# Altium schematic symbol library Resistors.SchLib: 38 symbols
Pins are listed as number, name and electrical type; pins without a type are passive.

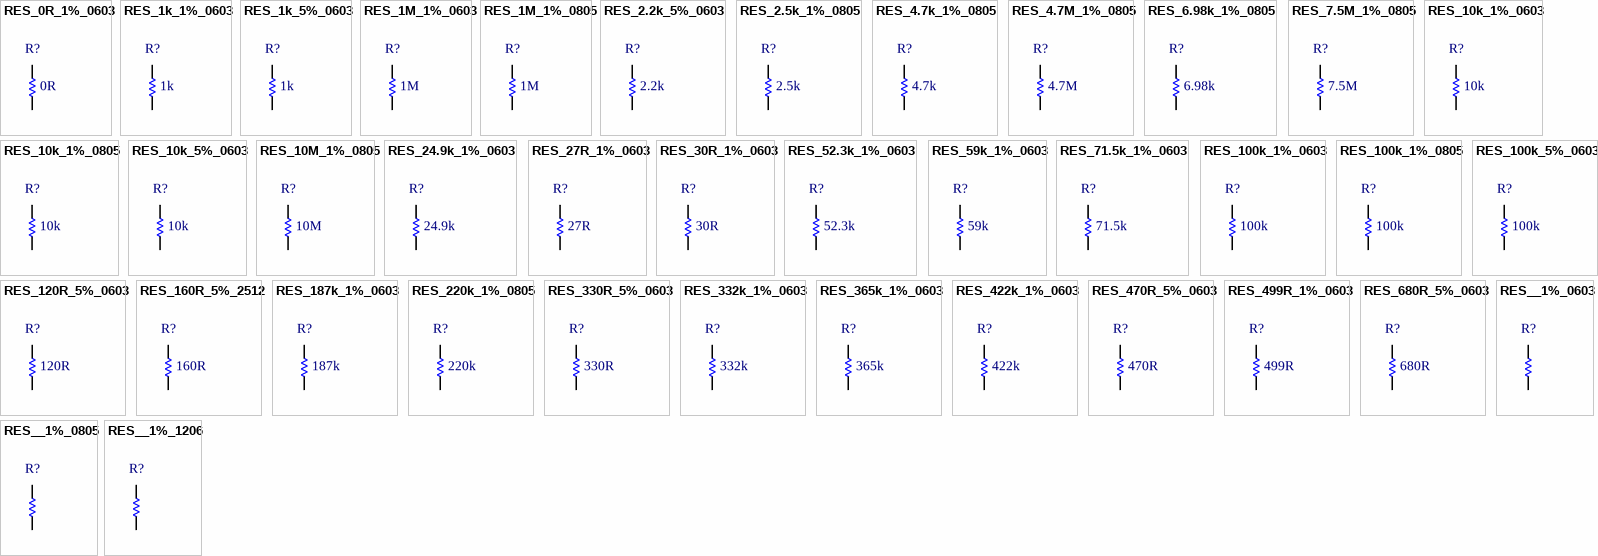
[diagram p0: symbols RES_0R_1%_0603 to RES__1%_1206]

## RES_0R_1%_0603
designator R?  SchematicInformation: 0R
Manufacturer Part Number: RC0603FR-070RL; Manufacturer: Yageo; DigiKey Part Number: 311-0.0HRCT-ND
footprint R_0603 (0603 SMT resistor)
pins: 1, 2

## RES_1k_1%_0603
designator R?  SchematicInformation: 1k
Manufacturer Part Number: RC0603FR-071KL; Manufacturer: Yageo; DigiKey Part Number: 311-1.00KHRCT-ND
footprint R_0603 (0603 SMT resistor)
pins: 1, 2

## RES_1k_5%_0603
designator R?  SchematicInformation: 1k
Manufacturer Part Number: RC0603JR-071KL; Manufacturer: Yageo; DigiKey Part Number: 311-1.0KGRCT-ND
footprint R_0603 (0603 SMT resistor)
pins: 1, 2

## RES_1M_1%_0603
designator R?  SchematicInformation: 1M
Manufacturer Part Number: RC0603FR-071ML; Manufacturer: Yageo; DigiKey Part Number: 311-1.00MHRCT-ND
footprint R_0603 (0603 SMT resistor)
pins: 1, 2

## RES_1M_1%_0805
designator R?  SchematicInformation: 1M
Manufacturer Part Number: RC0805FR-071ML; Manufacturer: Yageo; DigiKey Part Number: 311-1.00MCRCT-ND
footprint R_0805 (0805 SMT resistor)
pins: 1, 2

## RES_2.2k_5%_0603
designator R?  SchematicInformation: 2.2k
Manufacturer Part Number: RC0603FR-072K2L; Manufacturer: Yageo; DigiKey Part Number: 311-2.20KHRCT-ND
footprint R_0603 (0603 SMT resistor)
pins: 1, 2

## RES_2.5k_1%_0805
designator R?  SchematicInformation: 2.5k
Manufacturer Part Number: RC0805FR-072K32L; Manufacturer: Yageo; DigiKey Part Number: 311-2.32KCRCT-ND
footprint R_0805 (0805 SMT resistor)
pins: 1, 2

## RES_4.7k_1%_0805
designator R?  SchematicInformation: 4.7k
Manufacturer Part Number: RC0805FR-074K7L; Manufacturer: Yageo; DigiKey Part Number: 311-2.32KCRCT-ND
footprint R_0805 (0805 SMT resistor)
pins: 1, 2

## RES_4.7M_1%_0805
designator R?  SchematicInformation: 4.7M
Manufacturer Part Number: RC0805FR-074M7L; Manufacturer: Yageo; DigiKey Part Number: 311-4.70MCRCT-ND
footprint R_0805 (0805 SMT resistor)
pins: 1, 2

## RES_6.98k_1%_0805
designator R?  SchematicInformation: 6.98k
Manufacturer Part Number: RC0805FR-076K98L; Manufacturer: Yageo; DigiKey Part Number: 311-6.98KCRCT-ND
footprint R_0805 (0805 SMT resistor)
pins: 1, 2

## RES_7.5M_1%_0805
designator R?  SchematicInformation: 7.5M
Manufacturer Part Number: RC0805FR-077M5L; Manufacturer: Yageo; DigiKey Part Number: 311-7.50MCRCT-ND
footprint R_0805 (0805 SMT resistor)
pins: 1, 2

## RES_10k_1%_0603
designator R?  SchematicInformation: 10k
Manufacturer Part Number: RC0603FR-0710KL; Manufacturer: Yageo; DigiKey Part Number: 311-10.0KHRCT-ND
footprint R_0603 (0603 SMT resistor)
pins: 1, 2

## RES_10k_1%_0805
designator R?  SchematicInformation: 10k
Manufacturer Part Number: RC0805FR-0710KP; Manufacturer: Yageo; DigiKey Part Number: YAG1319CT-ND
footprint R_0805 (0805 SMT resistor)
pins: 1, 2

## RES_10k_5%_0603
designator R?  SchematicInformation: 10k
Manufacturer Part Number: AC0603JR-0710KL; Manufacturer: Yageo; DigiKey Part Number: 311-10KLECT-ND
footprint R_0603 (0603 SMT resistor)
pins: 1, 2

## RES_10M_1%_0805
designator R?  SchematicInformation: 10M
Manufacturer Part Number: RC0805FR-0710ML; Manufacturer: Yageo; DigiKey Part Number: 311-10.0MCRCT-ND
footprint R_0805 (0805 SMT resistor)
pins: 1, 2

## RES_24.9k_1%_0603
designator R?  SchematicInformation: 24.9k
Manufacturer Part Number: RT0603FRE0724K9L; Manufacturer: Yageo; DigiKey Part Number: YAG5951CT-ND
footprint R_0603 (0603 SMT resistor)
pins: 1, 2

## RES_27R_1%_0603
designator R?  SchematicInformation: 27R
Manufacturer Part Number: RT0603FRE0727RL; Manufacturer: Yageo; DigiKey Part Number: YAG5953CT-ND
footprint R_0603 (0603 SMT resistor)
pins: 1, 2

## RES_30R_1%_0603
designator R?  SchematicInformation: 30R
Manufacturer Part Number: RT0603FRE0730RL; Manufacturer: Yageo; DigiKey Part Number: 13-RT0603FRE0730RLCT-ND
footprint R_0603 (0603 SMT resistor)
pins: 1, 2

## RES_52.3k_1%_0603
designator R?  SchematicInformation: 52.3k
Manufacturer Part Number: RC0603FR-0752K3L; Manufacturer: Yageo; DigiKey Part Number: 311-52.3KHRCT-ND
footprint R_0603 (0603 SMT resistor)
pins: 1, 2

## RES_59k_1%_0603
designator R?  SchematicInformation: 59k
Manufacturer Part Number: RC0603FR-0759KL; Manufacturer: Yageo; DigiKey Part Number: 311-59.0KHRCT-ND
footprint R_0603 (0603 SMT resistor)
pins: 1, 2

## RES_71.5k_1%_0603
designator R?  SchematicInformation: 71.5k
Manufacturer Part Number: RC0603FR-0771K5L; Manufacturer: Yageo; DigiKey Part Number: 311-71.5KHRCT-ND
footprint R_0603 (0603 SMT resistor)
pins: 1, 2

## RES_100k_1%_0603
designator R?  SchematicInformation: 100k
Manufacturer Part Number: RC0603FR-07100KL; Manufacturer: Yageo; DigiKey Part Number: 311-100KHRCT-ND
footprint R_0603 (0603 SMT resistor)
pins: 1, 2

## RES_100k_1%_0805
designator R?  SchematicInformation: 100k
Manufacturer Part Number: RT0805FRE07100KL; Manufacturer: Yageo; DigiKey Part Number: YAG3359CT-ND
footprint R_0805 (0805 SMT resistor)
pins: 1, 2

## RES_100k_5%_0603
designator R?  SchematicInformation: 100k
Manufacturer Part Number: RC0603JR-07100KL; Manufacturer: Yageo; DigiKey Part Number: 311-100KGRCT-ND
footprint R_0603 (0603 SMT resistor)
pins: 1, 2

## RES_120R_5%_0603
designator R?  SchematicInformation: 120R
Manufacturer Part Number: RC0603JR-07120RL; Manufacturer: Yageo; DigiKey Part Number: 311-120GRCT-ND
footprint R_0603 (0603 SMT resistor)
pins: 1, 2

## RES_160R_5%_2512
designator R?  SchematicInformation: 160R
Manufacturer Part Number: 3522160RFT; Manufacturer: TE Connectivity Passive Product; DigiKey Part Number: A121150CT-ND
footprint R_2512 (2512 SMT resistor)
pins: 1, 2

## RES_187k_1%_0603
designator R?  SchematicInformation: 187k
Manufacturer Part Number: RC0603FR-07187KL; Manufacturer: Yageo; DigiKey Part Number: 311-187KHRCT-ND
footprint R_0603 (0603 SMT resistor)
pins: 1, 2

## RES_220k_1%_0805
designator R?  SchematicInformation: 220k
Manufacturer Part Number: RC0805FR-07220KL; Manufacturer: Yageo; DigiKey Part Number: 311-220KCRCT-ND
footprint R_0805 (0805 SMT resistor)
pins: 1, 2

## RES_330R_5%_0603
designator R?  SchematicInformation: 330R
Manufacturer Part Number: RC0603JR-07330RP; Manufacturer: Yageo; DigiKey Part Number: YAG1314CT-ND
footprint R_0603 (0603 SMT resistor)
pins: 1, 2

## RES_332k_1%_0603
designator R?  SchematicInformation: 332k
Manufacturer Part Number: RT0603FRE07332KL; Manufacturer: Yageo; DigiKey Part Number: 13-RT0603FRE07332KLCT-ND
footprint R_0603 (0603 SMT resistor)
pins: 1, 2

## RES_365k_1%_0603
designator R?  SchematicInformation: 365k
Manufacturer Part Number: RC0603FR-07365KL; Manufacturer: Yageo; DigiKey Part Number: 311-365KHRCT-ND
footprint R_0603 (0603 SMT resistor)
pins: 1, 2

## RES_422k_1%_0603
designator R?  SchematicInformation: 422k
Manufacturer Part Number: RC0603FR-07422KL; Manufacturer: Yageo; DigiKey Part Number: 311-422KHRCT-ND
footprint R_0603 (0603 SMT resistor)
pins: 1, 2

## RES_470R_5%_0603
designator R?  SchematicInformation: 470R
Manufacturer Part Number: RC0603JR-07470RP; Manufacturer: Yageo; DigiKey Part Number: YAG1316CT-ND
footprint R_0603 (0603 SMT resistor)
pins: 1, 2

## RES_499R_1%_0603
designator R?  SchematicInformation: 499R
Manufacturer Part Number: RC0603FR-07499RL; Manufacturer: Yageo; DigiKey Part Number: 311-499HRCT-ND
footprint R_0603 (0603 SMT resistor)
pins: 1, 2

## RES_680R_5%_0603
designator R?  SchematicInformation: 680R
Manufacturer Part Number: RC0603JR-07680RL; Manufacturer: Yageo; DigiKey Part Number: 311-680GRCT-ND
footprint R_0603 (0603 SMT resistor)
pins: 1, 2

## RES__1%_0603
designator R?, comment COMPONENT NOT FOR DESIGN  (value not drawn)
DigiKey Part Number: *
footprint R_0603 (0603 SMT resistor)
pins: 1, 2

## RES__1%_0805
designator R?, comment COMPONENT NOT FOR DESIGN  (value not drawn)
DigiKey Part Number: *
footprint R_0805 (0805 SMT resistor)
pins: 1, 2

## RES__1%_1206
designator R?, comment COMPONENT NOT FOR DESIGN  (value not drawn)
DigiKey Part Number: *
footprint R_1206 (1206 SMT resistor)
pins: 1, 2